# EAGLE library part 61001413321 (library Board-to-Board (rev18a))
WR-PHD 2.54mm SMT Socket Header, 14 Pins =>Code : CON_BTB_SHD_2.54_1_SMT_61001413321 <http://katalog.we-online.de/media/images/eican/Con_BTB_SHD_2.54_1_SMT_6100xx11921_pf2.jpg> Details see: http://katalog.we-online.de/en/em/PHD_2_54_SMT_SOCKET_HEADER_6100XXXXX21 Created 2014-05-30, Karrer Zheng 2014 (C) Würth Elektronik
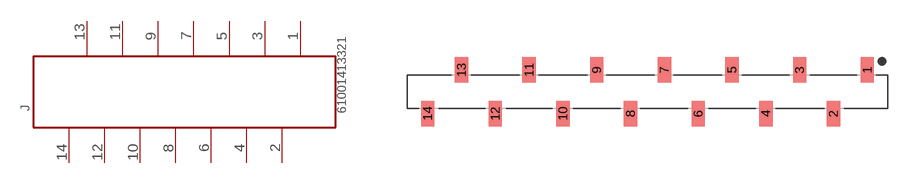
[diagram p197: symbol with the pads of 61001413321; footprint 61001413321]

Designator prefix J

## 61001413321  [61001413321]
1  14  pas
2  13  pas
3  12  pas
4  11  pas
5  10  pas
6  9  pas
7  8  pas
8  7  pas
9  6  pas
10  5  pas
11  4  pas
12  3  pas
13  2  pas
14  1  pas

## Footprint 61001413321 (pad centres in mm)
WR-PHD 2.54mm SMT Socket Header, 14 Pins
smd 1 x 1.91: 1 16.51,1.645; 2 13.97,-1.645; 3 11.43,1.645; 4 8.89,-1.645; 5 6.35,1.645; 6 3.81,-1.645; 7 1.27,1.645; 8 -1.27,-1.645; 9 -3.81,1.645; 10 -6.35,-1.645; 11 -8.89,1.645; 12 -11.43,-1.645; 13 -13.97,1.645; 14 -16.51,-1.645